# EAGLE library part MIRCRO-SIM(3FF) (library sim-card)
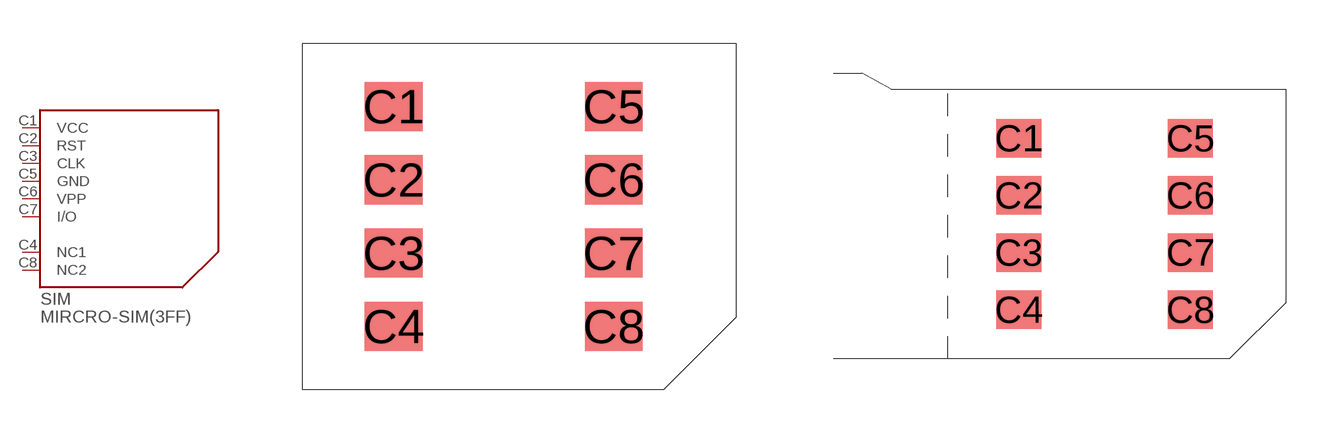
[diagram p0: symbol with the pads of MICRO-SIM; footprints MICRO-SIM, MICRO-SIM_LEFT]

Designator prefix SIM

## MIRCRO-SIM(3FF)'GENERIC'  [MICRO-SIM]
C1  VCC
C2  RST
C3  CLK
C4  NC1
C5  GND
C6  VPP
C7  I/O
C8  NC2

## MIRCRO-SIM(3FF)'LEFT'  [MICRO-SIM_LEFT]
Pads as for MICRO-SIM

## Footprint MICRO-SIM (pad centres in mm)
Micro SIM (3FF) Mini-UICC Source: Datasheet <http://www.etsi.org/deliver/etsi_ts/102200_102299/102221/09.02.00_60/ts_102221v090200p.pdf>
smd 2 x 1.7: C1 3.15,9.81; C2 3.15,7.27; C3 3.15,4.73; C4 3.15,2.19; C5 10.77,9.81; C6 10.77,7.27; C7 10.77,4.73; C8 10.77,2.19

## Footprint MICRO-SIM_LEFT (pad centres in mm)
Micro SIM (3FF) open to the left Mini-UICC Source: Datasheet <http://www.etsi.org/deliver/etsi_ts/102200_102299/102221/09.02.00_60/ts_102221v090200p.pdf>
smd 2 x 1.7: C1 3.15,9.81; C2 3.15,7.27; C3 3.15,4.73; C4 3.15,2.19; C5 10.77,9.81; C6 10.77,7.27; C7 10.77,4.73; C8 10.77,2.19